# Altium schematic symbol library SCH - CONNECTORS - 2X7 PIN.SchLib: 2 symbols
Pins are listed as number, name and electrical type; pins without a type are passive.

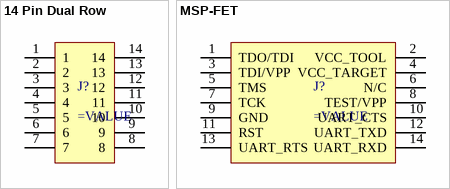
[diagram p0: symbols 14 Pin Dual Row to MSP-FET]

## 14 Pin Dual Row
designator J?
pins: 1, 2, 3, 4, 5, 6, 7, 8, 9, 10, 11, 12, 13, 14

## MSP-FET
designator J?
pins: 1 TDO/TDI, 2 VCC_TOOL, 3 TDI/VPP, 4 VCC_TARGET, 5 TMS, 6 N/C, 7 TCK, 8 TEST/VPP, 9 GND, 10 UART_CTS, 11 RST, 12 UART_TXD, 13 UART_RTS, 14 UART_RXD